# Altium footprint library AK300_2-5_0-GRAU.PcbLib: 2 footprints
Each footprint in its own frame and in the unit in brackets; x right, y up, seen from the top. Pads: shape width x height; smd on the part's side, far side on the other; paste and mask are expansions set on the pad; w line width, h text height; cw(c..) or ccw(c..) is an arc to the next point about the centre after c.
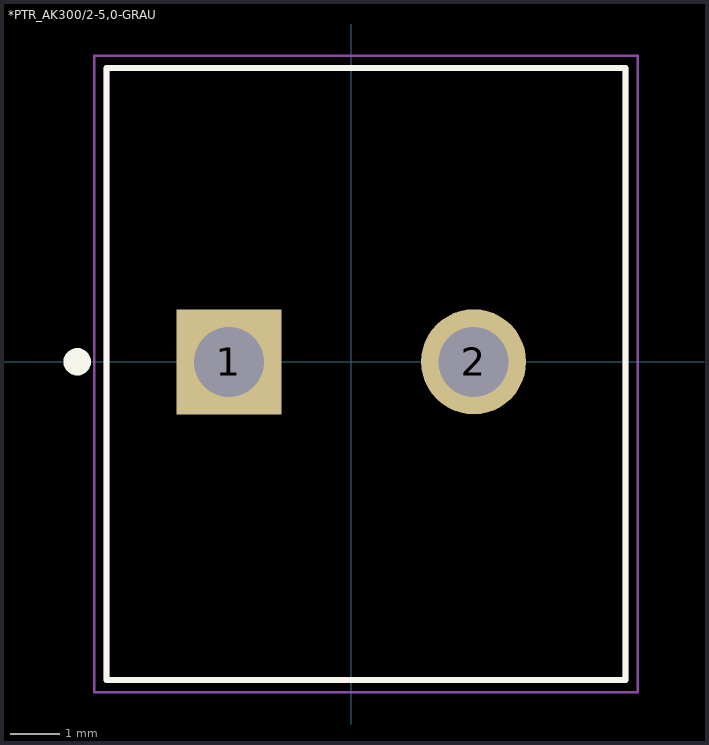
[diagram p0: the footprints below, top view; thin cyan lines are the x and y axes]

## *PTR_AK300/2-5,0-GRAU [mm]
pads (2):
  rect 2.145x2.145 hole 1.43: 1(-2.5,0)
  round 2.145 hole 1.43: 2(2.5,0)
Top Overlay:
  circle w0.28: c-5.6,0 r0.14
  lines w0.127: -5,-6.5 5.6,-6.5 5.6,6 -5,6 -5,-6.5
Mechanical 13:
  lines w0.127: -5,-6.5 5.6,-6.5 ; -5,-6.5 -5,6 ; -5,-6.5 5.6,-6.5 ; -5,-6.5 -5,6 ; -5,6 5.6,6 ; -5,6 5.6,6 ; 5.6,-6.5 5.6,6 ; 5.6,-6.5 5.6,6
Mechanical 15:
  lines w0.05: -5.25,-6.75 -5.25,6.25 5.85,6.25 5.85,-6.75 -5.25,-6.75

## PCBComponent_1 [mm]